# Altium schematic symbol library BUCK.SchLib: 2 symbols
Pins are listed as number, name and electrical type; pins without a type are passive.

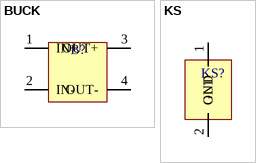
[diagram p0: symbols BUCK to KS]

## BUCK
designator B?  (value not drawn)
footprint BUCK
pins: 1 IN+, 2 IN-, 3 OUT+, 4 OUT-

## KS
designator KS?  (value not drawn)
footprint KS
pins: 1 GND, 2 OUT